# EAGLE library part ESP8266-DEVELOPMENT-BOARD_AT25SF041 (library rose)
SPI Serial Flash Memory with Dual/Quad-IO Support Example: Adesto Technologies AT25SF041-SSHD-T (1265-1131-1-ND) <http://www.digikey.com/product-detail/en/AT25SF041-SSHD-T/1265-1131-1-ND/4824165>
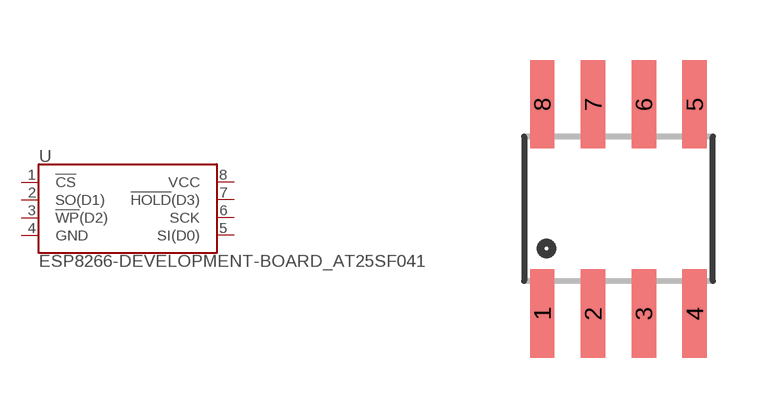
[diagram p12: symbol with the pads of ESP8266-DEVELOPMENT-BOARD_SO08; footprint ESP8266-DEVELOPMENT-BOARD_SO08]

Designator prefix U

## ESP8266-DEVELOPMENT-BOARD_AT25SF041-SOIC8  [ESP8266-DEVELOPMENT-BOARD_SO08]
1  !CS!
2  SO(D1)
3  !WP!(D2)
4  GND
5  SI(D0)
6  SCK
7  !HOLD!(D3)
8  VCC

## Footprint ESP8266-DEVELOPMENT-BOARD_SO08 (pad centres in mm)
8-pin SOIC package
smd 0.61 x 2.21: 1 -1.905,-2.616; 2 -0.635,-2.616; 3 0.635,-2.616; 4 1.905,-2.616; 5 1.905,2.616; 6 0.635,2.616; 7 -0.635,2.616; 8 -1.905,2.616